# Altium integrated library 12MHZ CUNTIAN.IntLib: 1 symbol
Pins are listed as number, name and electrical type; pins without a type are passive.

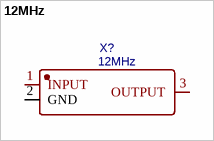
[diagram p0: symbol 12MHz]

## 12MHz
designator X?
BOM_Manufacturer: muRata(村田); BOM_Manufacturer Part: CSTNE12M0G52A000R0; nameAlias: Frequency; Contributor: LCSC; BOM_Supplier: LCSC; BOM_Supplier Part: C907957; BOM_JLCPCB Part Class: Extended Part; spicePre: X; spiceSymbolName: CSTNE12M0G52A000R0
footprint CRYSTAL-SMD_3P-L3.2-W1.3-P1.2-BL
pins: 1 INPUT, 2 GND, 3 OUTPUT